# Altium schematic symbol library KK Conectors.SchLib: 3 symbols
Pins are listed as number, name and electrical type; pins without a type are passive.

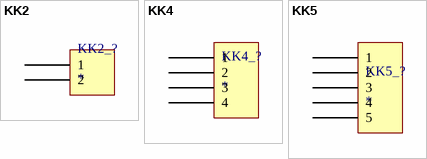
[diagram p0: symbols KK2 to KK5]

## KK2
designator KK2_?
KK Connector, 2 ways
footprint KK2 (KK Conector, 2 ways)
pins: 1, 2

## KK4
designator KK4_?
KK Connector, 4 ways
footprint KK4
pins: 1, 2, 3, 4

## KK5
designator KK5_?
KK Connector, 5 ways
pins: 1, 2, 3, 4, 5